# Altium integrated library pizero.IntLib: 2 symbols
Pins are listed as number, name and electrical type; pins without a type are passive.

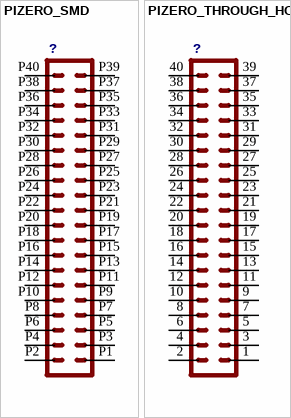
[diagram p0: symbols PIZERO_SMD to PIZERO_THROUGH_HOLE]

## PIZERO_SMD
designator ?
footprint PIZERO_SMD
pins: P1 1, P2 2, P3 3, P4 4, P5 5, P6 6, P7 7, P8 8, P9 9, P10 10, P11 11, P12 12, P13 13, P14 14, P15 15, P16 16, P17 17, P18 18, P19 19, P20 20, P21 21, P22 22, P23 23, P24 24, P25 25, P26 26, P27 27, P28 28, P29 29, P30 30, P31 31, P32 32, P33 33, P34 34, P35 35, P36 36, P37 37, P38 38, P39 39, P40 40

## PIZERO_THROUGH_HOLE
designator ?
footprint PIZERO_THOUGH_HOLE
pins: 1, 2, 3, 4, 5, 6, 7, 8, 9, 10, 11, 12, 13, 14, 15, 16, 17, 18, 19, 20, 21, 22, 23, 24, 25, 26, 27, 28, 29, 30, 31, 32, 33, 34, 35, 36, 37, 38, 39, 40